# Altium schematic symbol library SnapEDAsch.SchLib: 1 symbol
Pins are listed as number, name and electrical type; pins without a type are passive.

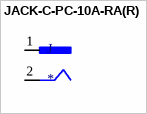
[diagram p0: symbol JACK-C-PC-10A-RA(R)]

## JACK-C-PC-10A-RA(R)
designator J
Power Barrel Connector Jack 2.10mm ID _0.083_, 5.50mm OD _0.217_ Through Hole, Right Angle; MF: GlobTek, Inc.; MP: JACK-C-PC-10A-RA_R_; Value: *; Digi-Key_Purchase_URL: https://www.digikey.com/product-detail/en/globtek-inc/JACK-C-PC-10A-RA_R_/1939-1086-ND/8597889?utm_source=snapeda&utm_medium=aggregator&utm_campaign=symbol; Digi-Key_Part_Number: 1939-1086-ND; Package: None; SnapEDA_Link: https://www.snapeda.com/parts/JACK-C-PC-10A-RA%28R%29/GlobTek%2C%20Inc./view-part/3076017/?ref=snap
footprint GLOBTECK_JACK-C-PC-10A-RA(R)
pins: 1, 2